# EAGLE library part DS1307 (library ds1307)
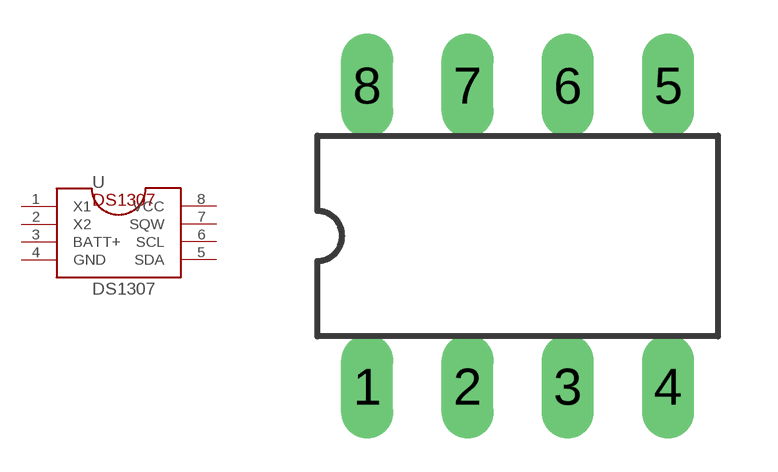
[diagram p0: symbol with the pads of DS1307; footprint DS1307]

Designator prefix -

## DS1307  [DS1307]
1  X1
2  X2
3  BATT+
4  GND
5  SDA
6  SCL
7  SQW
8  VCC

## Footprint DS1307 (pad centres in mm)
drill 0.813 long: 1 -3.81,-3.81; 2 -1.27,-3.81; 3 1.27,-3.81; 4 3.81,-3.81; 5 3.81,3.81; 6 1.27,3.81; 7 -1.27,3.81; 8 -3.81,3.81